# Altium schematic symbol library SCH - PASSIVES - RESISTOR ARRAY (8 CIRCUIT).SCHLIB: 1 symbol
Pins are listed as number, name and electrical type; pins without a type are passive.

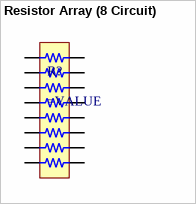
[diagram p0: symbol Resistor Array (8 Circuit)]

## Resistor Array (8 Circuit)
designator R?
SMT Resistor Array
pins: 1, 2, 3, 4, 5 6, 6, 7, 8, 9, 10, 11, 12, 13, 14, 15, 16